# Altium footprint library Camera-Sensor.PcbLib: 3 footprints
Each footprint in its own frame and in the unit in brackets; x right, y up, seen from the top. Pads: shape width x height; smd on the part's side, far side on the other; paste and mask are expansions set on the pad; w line width, h text height; cw(c..) or ccw(c..) is an arc to the next point about the centre after c.
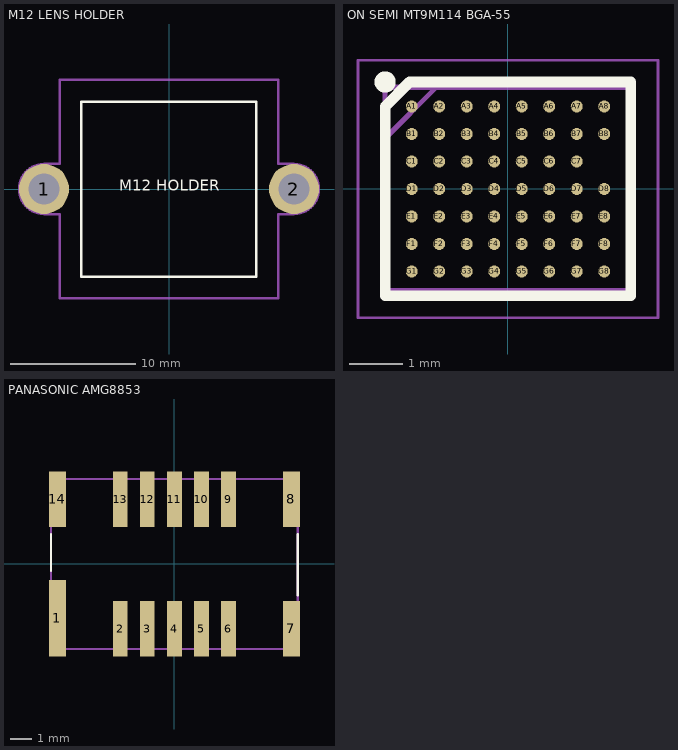
[diagram p0: the footprints below, top view; thin cyan lines are the x and y axes]

## M12 LENS HOLDER [mm]
height 14.1
pads (2):
  round 4 hole 2.5: 1(-10,0) 2(10,0)
Top Overlay:
  lines w0.2: -7,-7 -7,7 7,7 7,-7 -7,-7
  text "M12 HOLDER" at -4,-0.45 h1.52
Mechanical 1:
  lines w0.2: -10,-2 cw(c-10,0) -10,2 -8.75,2 -8.75,8.75 8.75,8.75 8.75,2 10,2 cw(c10,0) 10,-2 8.75,-2 8.75,-8.75 -8.75,-8.75 -8.75,-2 -10,-2
3D body "PT-LH001P.stp": height 14.1, standoff 0, extent -12.5,-8.75 12.5,8.75

## ON SEMI MT9M114 BGA-55 [mm] "ODCSP55 4.7x3.9 55-Ball Package"
height 0.745
pads (55):
  round 0.226 smd: A1(-1.82,1.56) A2(-1.3,1.56) A3(-0.78,1.56) A4(-0.26,1.56) A5(0.26,1.56) A6(0.78,1.56) A7(1.3,1.56) A8(1.82,1.56) B1(-1.82,1.04) B2(-1.3,1.04) B3(-0.78,1.04) B4(-0.26,1.04) B5(0.26,1.04) B6(0.78,1.04) B7(1.3,1.04) B8(1.82,1.04) C1(-1.82,0.52) C2(-1.3,0.52) C3(-0.78,0.52) C4(-0.26,0.52) C5(0.26,0.52) C6(0.78,0.52) C7(1.3,0.52) D1(-1.82,0) D2(-1.3,0) D3(-0.78,0) D4(-0.26,0) D5(0.26,0) D6(0.78,0) D7(1.3,0) D8(1.82,0) E1(-1.82,-0.52) E2(-1.3,-0.52) E3(-0.78,-0.52) E4(-0.26,-0.52) E5(0.26,-0.52) E6(0.78,-0.52) E7(1.3,-0.52) E8(1.82,-0.52) F1(-1.82,-1.04) F2(-1.3,-1.04) F3(-0.78,-1.04) F4(-0.26,-1.04) F5(0.26,-1.04) F6(0.78,-1.04) F7(1.3,-1.04) F8(1.82,-1.04) G1(-1.82,-1.56) G2(-1.3,-1.56) G3(-0.78,-1.56) G4(-0.26,-1.56) G5(0.26,-1.56) G6(0.78,-1.56) G7(1.3,-1.56) G8(1.82,-1.56)
Top Overlay:
  circle w0.2: c-2.324,2.023 r0.1
  lines w0.2: -2.324,-2.023 2.324,-2.023 2.324,2.023 -1.861,2.023 -2.324,1.56 -2.324,-2.023
Mechanical 13:
  lines w0.1: -2.324,0.956 -1.356,1.924 ; -2.324,-1.924 2.324,-1.924 2.324,1.924 -2.324,1.924 -2.324,-1.924
Mechanical 15:
  lines w0.05: -2.836,-2.437 2.837,-2.437 2.837,2.436 -2.836,2.436 -2.836,-2.437
3D body "MT9M114EBLSTCZ-CR1.stp": height 0.74, standoff 0, extent -2.324,-1.924 2.324,1.924

## PANASONIC AMG8853 [mm]
height 4.3
pads (14):
  rect 0.8x3.6 smd: 1(-5.5,-2.55)
  rect 0.7x2.6 smd: 2(-2.54,-3.05) 3(-1.27,-3.05) 4(0,-3.05) 5(1.27,-3.05) 6(2.54,-3.05) 9(2.54,3.05) 10(1.27,3.05) 11(0,3.05) 12(-1.27,3.05) 13(-2.54,3.05)
  rect 0.8x2.6 smd: 7(5.5,-3.05) 8(5.5,3.05) 14(-5.5,3.05)
Top Overlay:
  lines w0.1: -5.8,-0.324 -5.8,1.401 ; 5.8,-1.474 5.8,1.401
Mechanical 13:
  lines w0.1: -5.8,-4 5.8,-4 5.8,4 -5.8,4 -5.8,-4
3D body "AMG8833--3DModel-STEP-56544.STEP": height 4.3, standoff 0, extent -5.8,-4 5.8,4